# Altium schematic symbol library Buzzer.SchLib: 1 symbol
Pins are listed as number, name and electrical type; pins without a type are passive.

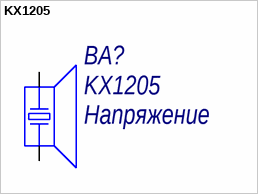
[diagram p0: symbol KX1205]

## KX1205
designator BA?  Voltage: Напряжение
Звукоизлучатель; ComponentDescription: Звукоизлучатель, KX1205, Напряжение; ComponentName: KX1205; ComponentType: Звукоизлучатель
footprint KX1205
pins: 1 ZUM+, 2 ZUM-